# Altium footprint library con-vg.PCBLIB: 112 footprints (part 4 of 7)
Each footprint in its own frame and in the unit in brackets; x right, y up, seen from the top. Pads: shape width x height; smd on the part's side, far side on the other; paste and mask are expansions set on the pad; w line width, h text height; cw(c..) or ccw(c..) is an arc to the next point about the centre after c.
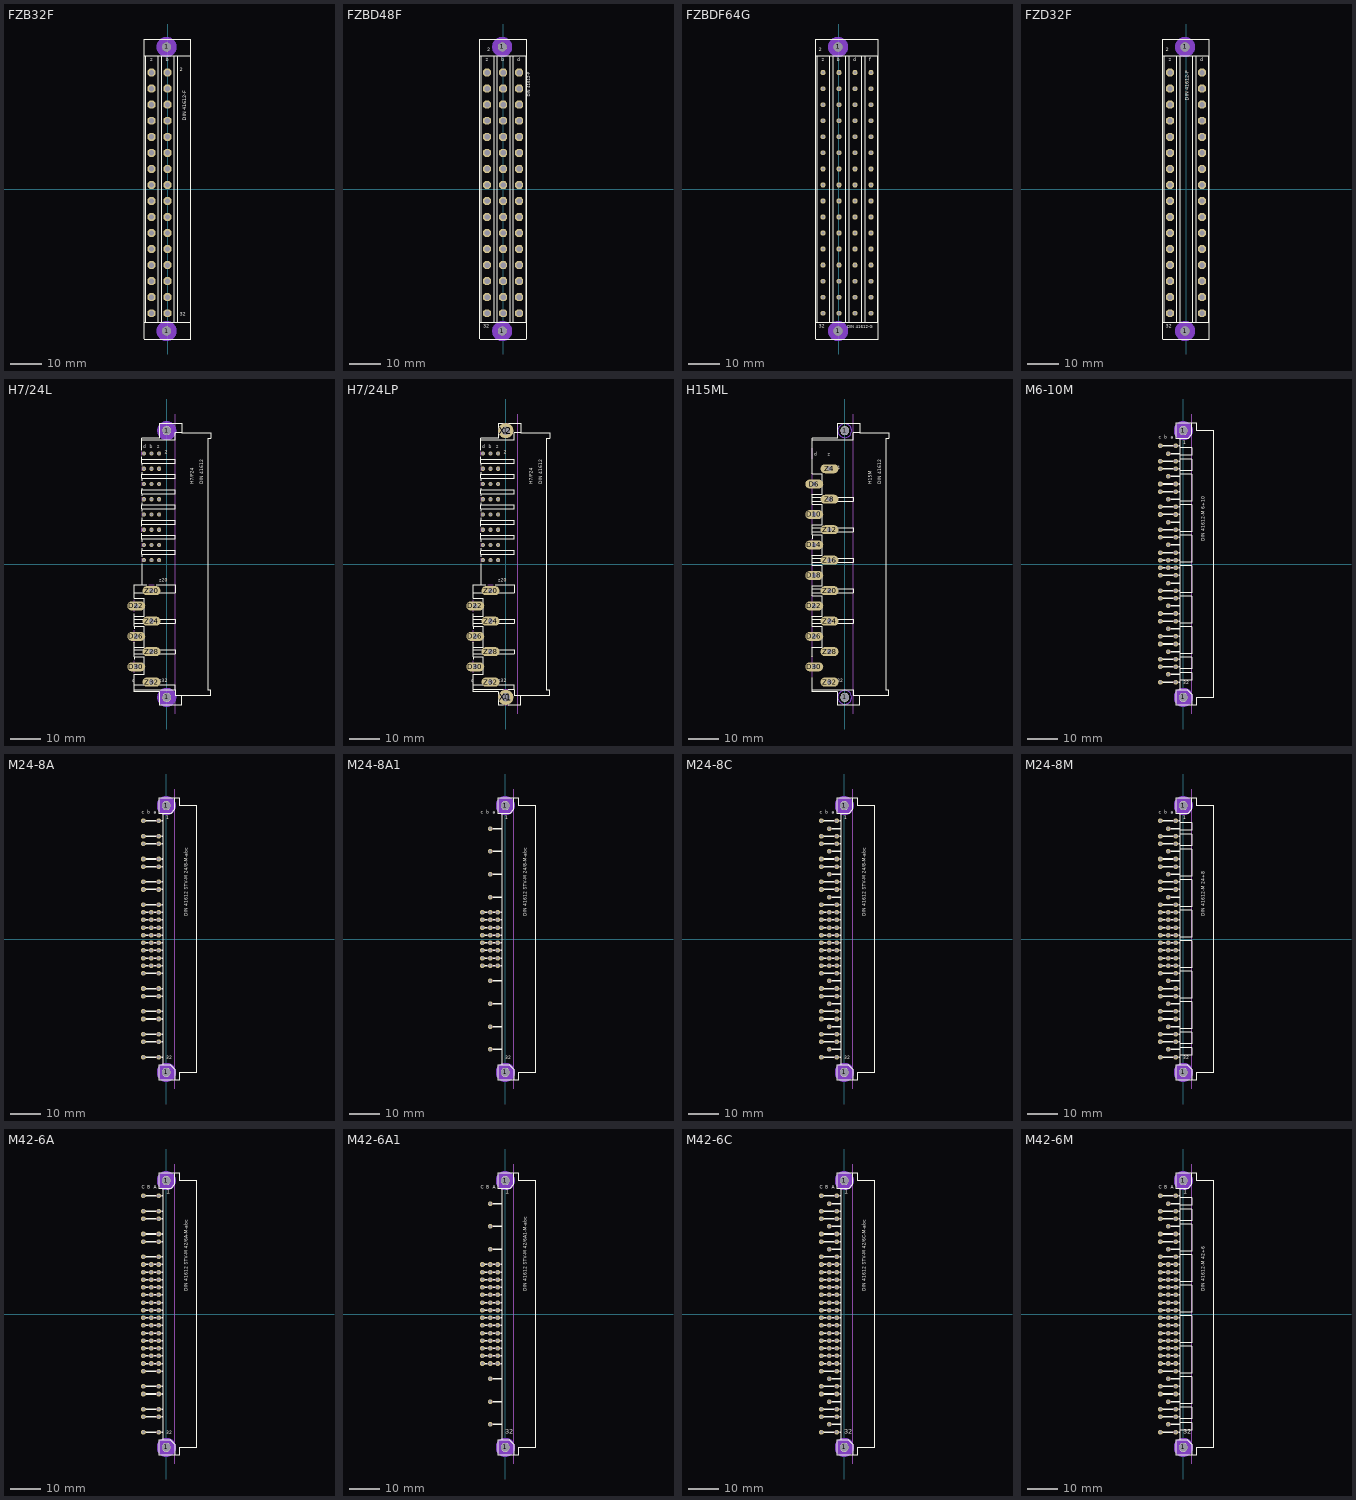
[diagram p3: the footprints below, top view; thin cyan lines are the x and y axes]

## FZB32F [mil]
pads (34):
  round 110 hole 110: 1(-12,-1771) 1(-12,1771)
  oct 99x99 hole 66: B2(0,1451) B4(0,1251) B6(0,1051) B8(0,851) B10(0,651) B12(0,451) B14(0,251) B16(0,51) B18(0,-149) B20(0,-349) B22(0,-549) B24(0,-749) B26(0,-949) B28(0,-1149) B30(0,-1349) B32(0,-1549) Z2(-200,1451) Z4(-200,1251) Z6(-200,1051) Z8(-200,851) Z10(-200,651) Z12(-200,451) Z14(-200,251) Z16(-200,51) Z18(-200,-149) Z20(-200,-349) Z22(-200,-549) Z24(-200,-749) Z26(-200,-949) Z28(-200,-1149) Z30(-200,-1349) Z32(-200,-1549)
Bottom Layer keep-out:
  circle w70: c-12,1771 r90
  circle w70: c-12,-1771 r90
Top Overlay:
  lines w10: -291.34,-1864.02 -291.34,1870 ; -287.4,-1870.08 290,-1870.08 ; -287.4,-1663.39 290,-1663.39 ; -287.4,1663.39 290,1663.39 ; -287.4,1870.08 290,1870.08 ; -280,-1660 -280,1660 ; -120,-1660 -120,1660 ; -80,-1660 -80,1660 ; 80,-1660 80,1660 ; 120,-1660 120,1660 ; 280,-1660 280,1660 ; 291.34,-1864.02 291.34,1870
  text "DIN 41612-F" at 250,850 h77.5
  text "32" at 150,-1600 h77.5
  text "2" at 150,1450 h77.5
  text "b" at -25,1575 h77.5
  text "z" at -215,1575 h77.5
Via Holes:
  circle w70: c-12,1771 r90
  circle w70: c-12,-1771 r90

## FZBD48F [mil]
pads (50):
  round 110 hole 110: 1(-12,-1771) 1(-12,1771)
  oct 99x99 hole 66: B2(0,1451) B4(0,1251) B6(0,1051) B8(0,851) B10(0,651) B12(0,451) B14(0,251) B16(0,51) B18(0,-149) B20(0,-349) B22(0,-549) B24(0,-749) B26(0,-949) B28(0,-1149) B30(0,-1349) B32(0,-1549) D2(200,1451) D4(200,1251) D6(200,1051) D8(200,851) D10(200,651) D12(200,451) D14(200,251) D16(200,51) D18(200,-149) D20(200,-349) D22(200,-549) D24(200,-749) D26(200,-949) D28(200,-1149) D30(200,-1349) D32(200,-1549) Z2(-200,1451) Z4(-200,1251) Z6(-200,1051) Z8(-200,851) Z10(-200,651) Z12(-200,451) Z14(-200,251) Z16(-200,51) Z18(-200,-149) Z20(-200,-349) Z22(-200,-549) Z24(-200,-749) Z26(-200,-949) Z28(-200,-1149) Z30(-200,-1349) Z32(-200,-1549)
Bottom Layer keep-out:
  circle w70: c-12,1771 r90
  circle w70: c-12,-1771 r90
Top Overlay:
  lines w10: -291.34,-1864.02 -291.34,1870 ; -287.4,-1870.08 290,-1870.08 ; -287.4,-1663.39 290,-1663.39 ; -287.4,1663.39 290,1663.39 ; -287.4,1870.08 290,1870.08 ; -280,-1660 -280,1660 ; -120,-1660 -120,1660 ; -80,-1660 -80,1660 ; 80,-1660 80,1660 ; 120,-1660 120,1660 ; 280,-1660 280,1660 ; 291.34,-1864.02 291.34,1870
  text "DIN 41612-F" at 350,1150 h62
  text "32" at -250,-1750 h77.5
  text "2" at -200,1700 h77.5
  text "d" at 175,1575 h77.5
  text "b" at -25,1575 h77.5
  text "z" at -215,1575 h77.5
Via Holes:
  circle w70: c-12,1771 r90
  circle w70: c-12,-1771 r90

## FZBDF64G [mil]
pads (66):
  round 110 hole 110: 1(-12,-1771) 1(-12,1771)
  oct 60x60 hole 40: B2(0,1451) B4(0,1251) B6(0,1051) B8(0,851) B10(0,651) B12(0,451) B14(0,251) B16(0,51) B18(0,-149) B20(0,-349) B22(0,-549) B24(0,-749) B26(0,-949) B28(0,-1149) B30(0,-1349) B32(0,-1549) D2(200,1451) D4(200,1251) D6(200,1051) D8(200,851) D10(200,651) D12(200,451) D14(200,251) D16(200,51) D18(200,-149) D20(200,-349) D22(200,-549) D24(200,-749) D26(200,-949) D28(200,-1149) D30(200,-1349) D32(200,-1549) F2(400,1451) F4(400,1251) F6(400,1051) F8(400,851) F10(400,651) F12(400,451) F14(400,251) F16(400,51) F18(400,-149) F20(400,-349) F22(400,-549) F24(400,-749) F26(400,-949) F28(400,-1149) F30(400,-1349) F32(400,-1549) Z2(-200,1451) Z4(-200,1251) Z6(-200,1051) Z8(-200,851) Z10(-200,651) Z12(-200,451) Z14(-200,251) Z16(-200,51) Z18(-200,-149) Z20(-200,-349) Z22(-200,-549) Z24(-200,-749) Z26(-200,-949) Z28(-200,-1149) Z30(-200,-1349) Z32(-200,-1549)
Bottom Layer keep-out:
  circle w70: c-12,1771 r90
  circle w70: c-12,-1771 r90
Top Overlay:
  lines w10: -291.34,-1864.02 -291.34,1870 ; -287.4,-1870.08 490,-1870.08 ; -287.4,-1663.39 490,-1663.39 ; -287.4,1663.39 490,1663.39 ; -287.4,1870.08 490,1870.08 ; -280,-1660 -280,1660 ; -120,-1660 -120,1660 ; -80,-1660 -80,1660 ; 80,-1660 80,1660 ; 120,-1660 120,1660 ; 280,-1660 280,1660 ; 320,-1660 320,1660 ; 480,-1660 480,1660 ; 491.34,-1864.02 491.34,1870
  text "32" at -250,-1750 h77.5
  text "2" at -250,1700 h77.5
  text "d" at 175,1575 h77.5
  text "b" at -25,1575 h77.5
  text "z" at -215,1575 h77.5
  text "f" at 375,1575 h77.5
  text "DIN 41612-G" at 100,-1750 h62
Via Holes:
  circle w70: c-12,1771 r90
  circle w70: c-12,-1771 r90

## FZD32F [mil]
pads (34):
  round 110 hole 110: 1(-12,-1771) 1(-12,1771)
  oct 99x99 hole 66: D2(200,1451) D4(200,1251) D6(200,1051) D8(200,851) D10(200,651) D12(200,451) D14(200,251) D16(200,51) D18(200,-149) D20(200,-349) D22(200,-549) D24(200,-749) D26(200,-949) D28(200,-1149) D30(200,-1349) D32(200,-1549) Z2(-200,1451) Z4(-200,1251) Z6(-200,1051) Z8(-200,851) Z10(-200,651) Z12(-200,451) Z14(-200,251) Z16(-200,51) Z18(-200,-149) Z20(-200,-349) Z22(-200,-549) Z24(-200,-749) Z26(-200,-949) Z28(-200,-1149) Z30(-200,-1349) Z32(-200,-1549)
Bottom Layer keep-out:
  circle w70: c-12,1771 r90
  circle w70: c-12,-1771 r90
Top Overlay:
  lines w10: -291.34,-1864.02 -291.34,1870 ; -287.4,-1870.08 290,-1870.08 ; -287.4,-1663.39 290,-1663.39 ; -287.4,1663.39 290,1663.39 ; -287.4,1870.08 290,1870.08 ; -280,-1660 -280,1660 ; -120,-1660 -120,1660 ; -80,-1660 -80,1660 ; 80,-1660 80,1660 ; 120,-1660 120,1660 ; 280,-1660 280,1660 ; 291.34,-1864.02 291.34,1870
  text "DIN 41612-F" at 50,1100 h77.5
  text "32" at -250,-1750 h77.5
  text "2" at -250,1700 h77.5
  text "d" at 175,1575 h77.5
  text "z" at -215,1575 h77.5
Via Holes:
  circle w70: c-12,1771 r90
  circle w70: c-12,-1771 r90

## H7/24L [mil]
pads (33):
  round 110 hole 110: 1(0,-1750) 1(0,1750)
  oct 54x54 hole 36: B2(-200,1450) B4(-200,1250) B6(-200,1050) B8(-200,850) B10(-200,650) B12(-200,450) B14(-200,250) B16(-200,50) D2(-300,1450) D4(-300,1250) D6(-300,1050) D8(-300,850) D10(-300,650) D12(-300,450) D14(-300,250) D16(-300,50) Z2(-100,1450) Z4(-100,1250) Z6(-100,1050) Z8(-100,850) Z10(-100,650) Z12(-100,450) Z14(-100,250) Z16(-100,50)
  oval 236.22x118.11 hole 63: D22(-400,-550) D26(-400,-950) D30(-400,-1350) Z20(-200,-350) Z24(-200,-750) Z28(-200,-1150) Z32(-200,-1550)
Bottom Layer keep-out:
  circle w70: c0,-1750 r90
  circle w70: c0,1750 r90
Top Overlay:
  circle w10: c0,-1750 r50
  circle w10: c0,1750 r50
  lines w10: -425,-1250 -425,-1215 ; -425,-1030 -425,-1090 ; -425,-850 -425,-815 ; -425,-650 -425,-685 ; -325,5 -325,-275 ; -325,95 -325,125 ; -325,205 -325,175 ; -325,295 -325,325 ; -325,405 -325,375 ; -325,495 -325,525 ; -325,605 -325,575 ; -325,695 -325,725 ; -325,805 -325,775 ; -325,895 -325,925 ; -325,995 -325,975 ; -325,1095 -325,1125 ; -325,1205 -325,1175 ; -325,1295 -325,1325 ; -325,1405 -325,1375 ; -325,1495 -325,1650 -100,1650 -100,1850 200,1850 200,1725 ; -325,1625 111,1625 111,1725 200,1725 ; -300,-1175 -425,-1175 ; -300,-1125 -425,-1125 ; -300,-775 -425,-775 ; -300,-725 -425,-725 ; -300,-375 -425,-375 ; -295,-1585 -425,-1585 ; -265,-275 -325,-275 ; -135,-275 110,-275 110,-375 -100,-375 ; -100,-1175 110,-1175 110,-1125 -100,-1125 ; -100,-775 110,-775 110,-725 -100,-725 ; -95,-1585 110,-1585 110,-1650 ; -425,-1650 -425,-1675 -100,-1675 -100,-1850 200,-1850 200,-1725 ; -425,-1650 110,-1650 ; -425,-1650 -425,-1585 ; -425,-1585 -425,-1450 -295,-1450 -295,-1215 -425,-1215 ; -425,-1215 -425,-1175 ; -425,-1175 -425,-1125 ; -425,-1125 -425,-1090 ; -425,-1090 -295,-1090 -295,-815 -425,-815 ; -425,-815 -425,-775 ; -425,-775 -425,-725 ; -425,-725 -425,-685 ; -425,-685 -295,-685 -295,-450 -425,-450 -425,-375 ; -425,-375 -425,-275 -325,-275 ; -325,125 110,125 110,175 -325,175 ; -325,125 -325,175 ; -325,325 110,325 110,375 -325,375 ; -325,325 -325,375 ; -325,525 110,525 110,575 -325,575 ; -325,525 -325,575 ; -325,725 110,725 110,775 -325,775 ; -325,725 -325,775 ; -325,925 110,925 110,975 -325,975 ; -325,925 -325,975 ; -325,1125 110,1125 110,1175 -325,1175 ; -325,1125 -325,1175 ; -325,1325 110,1325 110,1375 -325,1375 ; -325,1325 -325,1375 ; 110,-1650 110,-1725 200,-1725 ; 200,-1725 575,-1725 575,-1650 540,-1650 540,1650 575,1650 575,1725 200,1725
  text "2" at -25,1425 h77.5
  text "d" at -310,1500 h77.5
  text "b" at -225,1500 h77.5
  text "z" at -125,1500 h77.5
  text "H7/F24" at 375,1050 h77.5
  text "DIN 41612" at 500,1050 h77.5
  text "z20" at -100,-250 h77.5
  text "z32" at -100,-1570 h77.5
  text "d" at -450,-1570 h77.5
Mechanical 1:
  lines w0: 110,-1969 110,1969
Mechanical 16:
  lines w10: -425,-1430 -425,-1270 ; -425,-1030 -425,-870 ; -425,-630 -425,-470 ; -325,25 -325,75 ; -325,225 -325,275 ; -325,425 -325,475 ; -325,625 -325,675 ; -325,825 -325,875 ; -325,1025 -325,1075 ; -325,1225 -325,1275 ; -325,1425 -325,1475 ; -280,-1175 -120,-1175 ; -280,-1125 -120,-1125 ; -280,-775 -120,-775 ; -280,-725 -120,-725 ; -280,-375 -120,-375 ; -275,-1585 -125,-1585 ; -235,-275 -165,-275
Via Holes:
  circle w70: c0,-1750 r90
  circle w70: c0,1750 r90

## H7/24LP [mil]
pads (35):
  round 110 hole 110: 1(0,-1750) 1(0,1750)
  oct 54x54 hole 36: B2(-200,1450) B4(-200,1250) B6(-200,1050) B8(-200,850) B10(-200,650) B12(-200,450) B14(-200,250) B16(-200,50) D2(-300,1450) D4(-300,1250) D6(-300,1050) D8(-300,850) D10(-300,650) D12(-300,450) D14(-300,250) D16(-300,50) Z2(-100,1450) Z4(-100,1250) Z6(-100,1050) Z8(-100,850) Z10(-100,650) Z12(-100,450) Z14(-100,250) Z16(-100,50)
  oval 236.22x118.11 hole 63: D22(-400,-550) D26(-400,-950) D30(-400,-1350) Z20(-200,-350) Z24(-200,-750) Z28(-200,-1150) Z32(-200,-1550)
  round 200 hole 110: X1(0,-1750) X2(0,1750)
Top Overlay:
  circle w10: c0,-1750 r50
  circle w10: c0,1750 r50
  lines w10: -425,-1250 -425,-1215 ; -425,-1030 -425,-1090 ; -425,-850 -425,-815 ; -425,-650 -425,-685 ; -325,5 -325,-275 ; -325,95 -325,125 ; -325,205 -325,175 ; -325,295 -325,325 ; -325,405 -325,375 ; -325,495 -325,525 ; -325,605 -325,575 ; -325,695 -325,725 ; -325,805 -325,775 ; -325,895 -325,925 ; -325,995 -325,975 ; -325,1095 -325,1125 ; -325,1205 -325,1175 ; -325,1295 -325,1325 ; -325,1405 -325,1375 ; -325,1495 -325,1650 -100,1650 -100,1720 ; -325,1625 110,1625 110,1725 200,1725 ; -300,-1175 -425,-1175 ; -300,-1125 -425,-1125 ; -300,-775 -425,-775 ; -300,-725 -425,-725 ; -300,-375 -425,-375 ; -295,-1585 -425,-1585 ; -265,-275 -325,-275 ; -135,-275 110,-275 110,-375 -100,-375 ; -100,-1775 -100,-1850 -35,-1850 ; -100,-1720 -100,-1675 -425,-1675 -425,-1650 ; -100,-1175 110,-1175 110,-1125 -100,-1125 ; -100,-775 110,-775 110,-725 -100,-725 ; -100,1780 -100,1850 -35,1850 ; -95,-1585 110,-1585 110,-1650 ; -30,-1650 -425,-1650 ; 30,1850 200,1850 200,1725 ; 35,-1850 200,-1850 200,-1725 ; 35,-1650 110,-1650 ; -425,-1650 -425,-1585 ; -425,-1585 -425,-1450 -295,-1450 -295,-1215 -425,-1215 ; -425,-1215 -425,-1175 ; -425,-1175 -425,-1125 ; -425,-1125 -425,-1090 ; -425,-1090 -295,-1090 -295,-815 -425,-815 ; -425,-815 -425,-775 ; -425,-775 -425,-725 ; -425,-725 -425,-685 ; -425,-685 -295,-685 -295,-450 -425,-450 -425,-375 ; -425,-375 -425,-275 -325,-275 ; -325,125 110,125 110,175 -325,175 ; -325,125 -325,175 ; -325,325 110,325 110,375 -325,375 ; -325,325 -325,375 ; -325,525 110,525 110,575 -325,575 ; -325,525 -325,575 ; -325,725 110,725 110,775 -325,775 ; -325,725 -325,775 ; -325,925 110,925 110,975 -325,975 ; -325,925 -325,975 ; -325,1125 110,1125 110,1175 -325,1175 ; -325,1125 -325,1175 ; -325,1325 110,1325 110,1375 -325,1375 ; -325,1325 -325,1375 ; 110,-1650 110,-1725 200,-1725 ; 200,-1725 575,-1725 575,-1650 535,-1650 535,1650 575,1650 575,1725 200,1725
  text "H7/F24" at 375,1050 h77.5
  text "DIN 41612" at 500,1050 h77.5
  text "2" at -25,1425 h77.5
  text "d" at -310,1500 h77.5
  text "b" at -225,1500 h77.5
  text "z" at -125,1500 h77.5
  text "z20" at -100,-250 h77.5
  text "z32" at -100,-1570 h77.5
  text "d" at -450,-1570 h77.5
Mechanical 1:
  lines w0: 160,-1969 160,1969
Mechanical 16:
  lines w10: -425,-1430 -425,-1270 ; -425,-1030 -425,-870 ; -425,-630 -425,-470 ; -325,25 -325,75 ; -325,225 -325,275 ; -325,425 -325,475 ; -325,625 -325,675 ; -325,825 -325,875 ; -325,1025 -325,1075 ; -325,1225 -325,1275 ; -325,1425 -325,1475 ; -280,-1175 -120,-1175 ; -280,-1125 -120,-1125 ; -280,-775 -120,-775 ; -280,-725 -120,-725 ; -280,-375 -120,-375 ; -275,-1585 -125,-1585 ; -235,-275 -165,-275 ; -100,-1775 -100,-1720 ; -100,1720 -100,1780 ; -35,-1850 35,-1850 ; -35,1850 30,1850 ; -30,-1650 35,-1650

## H15ML [mm]
pads (17):
  round 2.794 hole 2.794: 1(0,-44.45) 1(0,44.45)
  oval 6x3 hole 1.6: D6(-10.16,26.67) D10(-10.16,16.51) D14(-10.16,6.35) D18(-10.16,-3.81) D22(-10.16,-13.97) D26(-10.16,-24.13) D30(-10.16,-34.29) Z4(-5.08,31.75) Z8(-5.08,21.59) Z12(-5.08,11.43) Z16(-5.08,1.27) Z20(-5.08,-8.89) Z24(-5.08,-19.05) Z28(-5.08,-29.21) Z32(-5.08,-39.37)
Bottom Layer keep-out:
  circle w0.254: c0,-44.45 r2.286
  circle w0.254: c0,44.45 r2.286
Top Overlay:
  circle w0.254: c0,-44.45 r1.27
  circle w0.254: c0,44.45 r1.27
  lines w0.254: -10.795,-37.846 -10.795,-41.91 ; -10.795,-30.861 -10.795,-27.686 -7.493,-27.686 -7.493,-20.701 -10.795,-20.701 -10.795,-19.685 ; -10.795,8.382 -10.795,9.779 ; -7.62,-19.685 -10.795,-19.685 ; -7.62,-18.415 -10.795,-18.415 ; -7.62,-9.525 -10.795,-9.525 ; -7.62,-8.255 -10.795,-8.255 ; -7.62,0.635 -10.795,0.635 ; -7.62,1.905 -10.795,1.905 ; -7.62,10.795 -10.795,10.795 ; -7.62,12.065 -10.795,12.065 ; -7.62,20.955 -10.795,20.955 ; -7.62,22.225 -10.795,22.225 ; -2.54,-19.685 2.794,-19.685 2.794,-18.415 -2.54,-18.415 ; -2.54,-9.525 2.794,-9.525 2.794,-8.255 -2.54,-8.255 ; -2.54,0.635 2.794,0.635 2.794,1.905 -2.54,1.905 ; -2.54,10.795 2.794,10.795 2.794,12.065 -2.54,12.065 ; -2.54,20.955 2.794,20.955 2.794,22.225 -2.54,22.225 ; -10.795,-41.91 -10.795,-42.545 -2.54,-42.545 -2.54,-46.99 5.08,-46.99 5.08,-43.815 ; -10.795,-41.91 2.794,-41.91 2.794,-43.815 5.08,-43.815 ; -10.795,-19.685 -10.795,-18.415 ; -10.795,-18.415 -10.795,-17.399 -7.493,-17.399 -7.493,-10.541 -10.795,-10.541 -10.795,-9.525 ; -10.795,-9.525 -10.795,-8.255 ; -10.795,-8.255 -10.795,-7.239 -7.493,-7.239 -7.493,-0.381 -10.795,-0.381 -10.795,0.635 ; -10.795,0.635 -10.795,1.905 ; -10.795,1.905 -10.795,2.921 -7.493,2.921 -7.493,9.779 -10.795,9.779 ; -10.795,9.779 -10.795,10.795 ; -10.795,10.795 -10.795,12.065 ; -10.795,12.065 -10.795,13.081 -7.493,13.081 -7.493,19.939 -10.795,19.939 -10.795,20.955 ; -10.795,20.955 -10.795,22.225 ; -10.795,22.225 -10.795,23.241 -7.493,23.241 -7.493,30.099 -10.795,30.099 -10.795,41.275 ; -10.795,41.275 2.819,41.275 2.819,43.815 5.08,43.815 ; -10.795,41.275 -10.795,41.91 -2.54,41.91 -2.54,46.99 5.08,46.99 5.08,43.815 ; 5.08,-43.815 14.605,-43.815 14.605,-41.91 13.716,-41.91 13.716,41.91 14.605,41.91 14.605,43.815 5.08,43.815
  text "32" at -2.54,-40.005 h1.97
  text "DIN 41612" at 12.7,26.67 h1.97
  text "4" at -2.54,31.115 h1.97
  text "H15M" at 9.525,26.67 h1.97
  text "z" at -5.715,35.56 h1.97
  text "d" at -10.16,35.56 h1.97
Mechanical 1:
  lines w0: 2.794,-50.013 2.794,50.013
Mechanical 16:
  lines w0.254: -10.795,-37.846 -10.795,-30.861 ; -10.795,-27.686 -10.795,-20.701 ; -10.795,-17.399 -10.795,-10.541 ; -10.795,-7.239 -10.795,-0.381 ; -10.795,2.921 -10.795,8.382 ; -10.795,13.081 -10.795,19.939 ; -10.795,23.241 -10.795,30.099 ; -10.795,35.052 -10.795,38.608 ; -7.62,-19.685 -2.54,-19.685 ; -7.62,-18.415 -2.54,-18.415 ; -7.62,-9.525 -2.54,-9.525 ; -7.62,-8.255 -2.54,-8.255 ; -7.62,0.635 -2.54,0.635 ; -7.62,1.905 -2.54,1.905 ; -7.62,10.795 -2.54,10.795 ; -7.62,12.065 -2.54,12.065 ; -7.62,20.955 -2.54,20.955 ; -7.62,22.225 -2.54,22.225
Via Holes:
  circle w0.254: c0,-44.45 r2.286
  circle w0.254: c0,44.45 r2.286

## M6-10M [mil]
pads (58):
  round 110.24 hole 110.24: 1(0,-1750) 1(0,1750)
  oct 60x60 hole 40: A1(-100,1550) A3(-100,1350) A4(-100,1250) A6(-100,1050) A7(-100,950) A9(-100,750) A10(-100,650) A12(-100,450) A13(-100,350) A15(-100,150) A16(-100,50) A17(-100,-50) A18(-100,-150) A20(-100,-350) A21(-100,-450) A23(-100,-650) A24(-100,-750) A26(-100,-950) A27(-100,-1050) A29(-100,-1250) A30(-100,-1350) A32(-100,-1550) B2(-200,1450) B5(-200,1150) B8(-200,850) B11(-200,550) B14(-200,250) B16(-200,50) B17(-200,-50) B19(-200,-250) B22(-200,-550) B25(-200,-850) B28(-200,-1150) B31(-200,-1450) C1(-300,1550) C3(-300,1350) C4(-300,1250) C6(-300,1050) C7(-300,950) C9(-300,750) C10(-300,650) C12(-300,450) C13(-300,350) C15(-300,150) C16(-300,50) C17(-300,-50) C18(-300,-150) C20(-300,-350) C21(-300,-450) C23(-300,-650) C24(-300,-750) C26(-300,-950) C27(-300,-1050) C29(-300,-1250) C30(-300,-1350) C32(-300,-1550)
Bottom Layer keep-out:
  circle w70: c0,1750 r90
  circle w70: c0,-1750 r90
Top Overlay:
  drawing of 188 lines, arcs and shapes, not listed
  text "1" at 0,1550 h77.5
  text "32" at 0,-1600 h77.5
  text "DIN 41612-M 6+10" at 300,300 h77.5
  text "c" at -325,1625 h77.5
  text "b" at -250,1625 h77.5
  text "a" at -165,1625 h77.5
Mechanical 1:
  lines w0: 110,-1969 110,1969
Mechanical 16:
  rectangle: -135,1540 -65,1560
  rectangle: -310,1540 -265,1560
  rectangle: -310,1340 -265,1360
  rectangle: -135,1340 -65,1360
  rectangle: -135,1240 -65,1260
  rectangle: -310,1240 -265,1260
  rectangle: -135,1040 -65,1060
  rectangle: -310,1040 -265,1060
  rectangle: -310,940 -265,960
  rectangle: -135,940 -65,960
  rectangle: -135,740 -65,760
  rectangle: -310,740 -265,760
  rectangle: -135,640 -65,660
  rectangle: -310,640 -265,660
  rectangle: -135,440 -65,460
  rectangle: -135,340 -65,360
  rectangle: -310,440 -265,460
  rectangle: -310,340 -265,360
  rectangle: -135,140 -65,160
  rectangle: -310,140 -265,160
  rectangle: -310,40 -265,60
  rectangle: -135,40 -65,60
  rectangle: -135,-60 -65,-40
  rectangle: -310,-60 -265,-40
  rectangle: -135,-160 -65,-140
  rectangle: -310,-160 -265,-140
  rectangle: -310,-360 -265,-340
  rectangle: -135,-360 -65,-340
  rectangle: -135,-460 -65,-440
  rectangle: -310,-460 -265,-440
  rectangle: -135,-660 -65,-640
  rectangle: -310,-660 -265,-640
  rectangle: -135,-760 -65,-740
  rectangle: -310,-760 -265,-740
  rectangle: -135,-960 -65,-940
  rectangle: -310,-960 -265,-940
  rectangle: -135,-1060 -65,-1040
  rectangle: -310,-1060 -265,-1040
  rectangle: -310,-1260 -265,-1240
  rectangle: -135,-1260 -65,-1240
  rectangle: -135,-1360 -65,-1340
  rectangle: -310,-1360 -265,-1340
  rectangle: -135,-1560 -65,-1540
  rectangle: -310,-1560 -265,-1540
  rectangle: -235,40 -165,60
  rectangle: -235,-60 -165,-40
  rectangle: -210,1140 -165,1160
  rectangle: -210,1440 -165,1460
  rectangle: -210,-1160 -165,-1140
  rectangle: -210,-1460 -165,-1440
  rectangle: -210,840 -165,860
  rectangle: -210,-860 -165,-840
  rectangle: -210,540 -165,560
  rectangle: -210,-560 -165,-540
  rectangle: -210,240 -165,260
  rectangle: -210,-260 -165,-240
Via Holes:
  circle w70: c0,1750 r90
  circle w70: c0,-1750 r90

## M24-8A [mil]
pads (58):
  round 110.24 hole 110.24: 1(0,-1750) 1(0,1750)
  oct 60x60 hole 40: A1(-100,1550) A3(-100,1350) A4(-100,1250) A6(-100,1050) A7(-100,950) A9(-100,750) A10(-100,650) A12(-100,450) A13(-100,350) A14(-100,250) A15(-100,150) A16(-100,50) A17(-100,-50) A18(-100,-150) A19(-100,-250) A20(-100,-350) A21(-100,-450) A23(-100,-650) A24(-100,-750) A26(-100,-950) A27(-100,-1050) A29(-100,-1250) A30(-100,-1350) A32(-100,-1550) B13(-200,350) B14(-200,250) B15(-200,150) B16(-200,50) B17(-200,-50) B18(-200,-150) B19(-200,-250) B20(-200,-350) C1(-300,1550) C3(-300,1350) C4(-300,1250) C6(-300,1050) C7(-300,950) C9(-300,750) C10(-300,650) C12(-300,450) C13(-300,350) C14(-300,250) C15(-300,150) C16(-300,50) C17(-300,-50) C18(-300,-150) C19(-300,-250) C20(-300,-350) C21(-300,-450) C23(-300,-650) C24(-300,-750) C26(-300,-950) C27(-300,-1050) C29(-300,-1250) C30(-300,-1350) C32(-300,-1550)
Bottom Layer keep-out:
  circle w70: c0,1750 r90
  circle w70: c0,-1750 r90
Top Overlay:
  circle w10: c0,1750 r50
  circle w10: c0,-1750 r50
  rectangle: -65,1540 -50,1560
  rectangle: -65,1340 -50,1360
  rectangle: -65,1240 -50,1260
  rectangle: -65,1040 -50,1060
  rectangle: -65,940 -50,960
  rectangle: -65,740 -50,760
  rectangle: -65,640 -50,660
  rectangle: -65,440 -50,460
  rectangle: -65,340 -50,360
  rectangle: -65,240 -50,260
  rectangle: -65,140 -50,160
  rectangle: -65,40 -50,60
  rectangle: -65,-60 -50,-40
  rectangle: -65,-160 -50,-140
  rectangle: -65,-260 -50,-240
  rectangle: -65,-360 -50,-340
  rectangle: -65,-460 -50,-440
  rectangle: -65,-660 -50,-640
  rectangle: -65,-760 -50,-740
  rectangle: -65,-960 -50,-940
  rectangle: -65,-1060 -50,-1040
  rectangle: -65,-1260 -50,-1240
  rectangle: -65,-1360 -50,-1340
  rectangle: -65,-1560 -50,-1540
  rectangle: -235,1540 -165,1560
  rectangle: -165,1540 -135,1560
  rectangle: -265,1540 -235,1560
  rectangle: -165,1340 -135,1360
  rectangle: -235,1340 -165,1360
  rectangle: -265,1340 -235,1360
  rectangle: -165,940 -135,960
  rectangle: -265,940 -235,960
  rectangle: -165,740 -135,760
  rectangle: -265,740 -235,760
  rectangle: -265,640 -235,660
  rectangle: -165,640 -135,660
  rectangle: -265,440 -235,460
  rectangle: -165,440 -135,460
  rectangle: -165,340 -135,360
  rectangle: -265,340 -235,360
  rectangle: -265,240 -235,260
  rectangle: -165,240 -135,260
  rectangle: -165,140 -135,160
  rectangle: -265,140 -235,160
  rectangle: -265,40 -235,60
  rectangle: -165,40 -135,60
  rectangle: -165,-60 -135,-40
  rectangle: -265,-60 -235,-40
  rectangle: -265,-160 -235,-140
  rectangle: -165,-160 -135,-140
  rectangle: -165,-260 -135,-240
  rectangle: -265,-260 -235,-240
  rectangle: -265,-360 -235,-340
  rectangle: -165,-360 -135,-340
  rectangle: -165,-460 -135,-440
  rectangle: -265,-460 -235,-440
  rectangle: -165,-660 -135,-640
  rectangle: -265,-660 -235,-640
  rectangle: -265,-760 -235,-740
  rectangle: -165,-760 -135,-740
  rectangle: -265,-960 -235,-940
  rectangle: -165,-960 -135,-940
  rectangle: -165,-1060 -135,-1040
  rectangle: -265,-1060 -235,-1040
  rectangle: -165,-1260 -135,-1240
  rectangle: -265,-1260 -235,-1240
  rectangle: -265,-1360 -235,-1340
  rectangle: -235,-1360 -165,-1340
  rectangle: -165,-1360 -135,-1340
  rectangle: -265,-1560 -235,-1540
  rectangle: -235,-1560 -165,-1540
  rectangle: -165,-1560 -135,-1540
  rectangle: -235,1240 -165,1260
  rectangle: -265,1240 -235,1260
  rectangle: -165,1240 -135,1260
  rectangle: -265,1040 -235,1060
  rectangle: -235,1040 -165,1060
  rectangle: -165,1040 -135,1060
  rectangle: -235,-1260 -165,-1240
  rectangle: -235,-1060 -165,-1040
  rectangle: -235,940 -165,960
  rectangle: -235,740 -165,760
  rectangle: -235,-960 -165,-940
  rectangle: -235,-760 -165,-740
  rectangle: -235,640 -165,660
  rectangle: -235,440 -165,460
  rectangle: -235,-660 -165,-640
  rectangle: -235,-460 -165,-440
  lines w10: -50,-1650 -100,-1650 -100,-1850 113,-1850 ; -50,-1650 50,-1650 113,-1713 113,-1850 ; -50,-1650 -50,1650 ; -50,1650 -100,1650 -100,1850 113,1850 ; -50,1650 63,1650 113,1700 113,1850 ; 113,-1850 175,-1850 175,-1750 400,-1750 400,1750 175,1750 175,1850 113,1850
  text "1" at 0,1550 h77.5
  text "32" at 0,-1600 h77.5
  text "c" at -325,1625 h77.5
  text "b" at -250,1625 h77.5
  text "a" at -165,1625 h77.5
  text "DIN 41612 STV-M 24/8-M-abc" at 300,300 h77.5
Mechanical 1:
  lines w0: 110,-1969 110,1969
Mechanical 16:
  rectangle: -135,1540 -65,1560
  rectangle: -310,1540 -265,1560
  rectangle: -310,1340 -265,1360
  rectangle: -135,1340 -65,1360
  rectangle: -135,1240 -65,1260
  rectangle: -310,1240 -265,1260
  rectangle: -135,1040 -65,1060
  rectangle: -310,1040 -265,1060
  rectangle: -310,940 -265,960
  rectangle: -135,940 -65,960
  rectangle: -135,740 -65,760
  rectangle: -310,740 -265,760
  rectangle: -135,640 -65,660
  rectangle: -310,640 -265,660
  rectangle: -135,440 -65,460
  rectangle: -135,340 -65,360
  rectangle: -310,440 -265,460
  rectangle: -310,340 -265,360
  rectangle: -310,240 -265,260
  rectangle: -135,240 -65,260
  rectangle: -135,140 -65,160
  rectangle: -310,140 -265,160
  rectangle: -310,40 -265,60
  rectangle: -135,40 -65,60
  rectangle: -135,-60 -65,-40
  rectangle: -310,-60 -265,-40
  rectangle: -135,-160 -65,-140
  rectangle: -310,-160 -265,-140
  rectangle: -135,-260 -65,-240
  rectangle: -310,-260 -265,-240
  rectangle: -310,-360 -265,-340
  rectangle: -135,-360 -65,-340
  rectangle: -135,-460 -65,-440
  rectangle: -310,-460 -265,-440
  rectangle: -135,-660 -65,-640
  rectangle: -310,-660 -265,-640
  rectangle: -135,-760 -65,-740
  rectangle: -310,-760 -265,-740
  rectangle: -135,-960 -65,-940
  rectangle: -310,-960 -265,-940
  rectangle: -135,-1060 -65,-1040
  rectangle: -310,-1060 -265,-1040
  rectangle: -310,-1260 -265,-1240
  rectangle: -135,-1260 -65,-1240
  rectangle: -135,-1360 -65,-1340
  rectangle: -310,-1360 -265,-1340
  rectangle: -135,-1560 -65,-1540
  rectangle: -310,-1560 -265,-1540
  rectangle: -235,340 -165,360
  rectangle: -235,240 -165,260
  rectangle: -235,140 -165,160
  rectangle: -235,40 -165,60
  rectangle: -235,-60 -165,-40
  rectangle: -235,-160 -165,-140
  rectangle: -235,-260 -165,-240
  rectangle: -235,-360 -165,-340
Via Holes:
  circle w70: c0,1750 r90
  circle w70: c0,-1750 r90

## M24-8A1 [mil]
pads (34):
  round 110.24 hole 110.24: 1(0,-1750) 1(0,1750)
  oct 60x60 hole 40: A13(-100,350) A14(-100,250) A15(-100,150) A16(-100,50) A17(-100,-50) A18(-100,-150) A19(-100,-250) A20(-100,-350) B2(-200,1450) B5(-200,1150) B8(-200,850) B11(-200,550) B13(-200,350) B14(-200,250) B15(-200,150) B16(-200,50) B17(-200,-50) B18(-200,-150) B19(-200,-250) B20(-200,-350) B22(-200,-550) B25(-200,-850) B28(-200,-1150) B31(-200,-1450) C13(-300,350) C14(-300,250) C15(-300,150) C16(-300,50) C17(-300,-50) C18(-300,-150) C19(-300,-250) C20(-300,-350)
Bottom Layer keep-out:
  circle w70: c0,1750 r90
  circle w70: c0,-1750 r90
Top Overlay:
  circle w10: c0,1750 r50
  circle w10: c0,-1750 r50
  rectangle: -65,1440 -50,1460
  rectangle: -135,1440 -65,1460
  rectangle: -65,1140 -50,1160
  rectangle: -65,840 -50,860
  rectangle: -65,540 -50,560
  rectangle: -65,340 -50,360
  rectangle: -65,240 -50,260
  rectangle: -65,140 -50,160
  rectangle: -65,40 -50,60
  rectangle: -65,-60 -50,-40
  rectangle: -65,-160 -50,-140
  rectangle: -65,-260 -50,-240
  rectangle: -65,-360 -50,-340
  rectangle: -65,-560 -50,-540
  rectangle: -65,-860 -50,-840
  rectangle: -65,-1160 -50,-1140
  rectangle: -135,-1460 -65,-1440
  rectangle: -65,-1460 -50,-1440
  rectangle: -165,1440 -135,1460
  rectangle: -165,1140 -135,1160
  rectangle: -165,840 -135,860
  rectangle: -165,540 -135,560
  rectangle: -165,340 -135,360
  rectangle: -265,340 -235,360
  rectangle: -265,240 -235,260
  rectangle: -165,240 -135,260
  rectangle: -165,140 -135,160
  rectangle: -265,140 -235,160
  rectangle: -265,40 -235,60
  rectangle: -165,40 -135,60
  rectangle: -165,-60 -135,-40
  rectangle: -265,-60 -235,-40
  rectangle: -265,-160 -235,-140
  rectangle: -165,-160 -135,-140
  rectangle: -165,-260 -135,-240
  rectangle: -265,-260 -235,-240
  rectangle: -265,-360 -235,-340
  rectangle: -165,-360 -135,-340
  rectangle: -165,-560 -135,-540
  rectangle: -165,-860 -135,-840
  rectangle: -165,-1160 -135,-1140
  rectangle: -165,-1460 -135,-1440
  rectangle: -135,-1160 -65,-1140
  rectangle: -135,1140 -65,1160
  rectangle: -135,840 -65,860
  rectangle: -135,-860 -65,-840
  rectangle: -135,540 -65,560
  rectangle: -135,-560 -65,-540
  lines w10: -50,-1650 -100,-1650 -100,-1850 113,-1850 ; -50,-1650 50,-1650 113,-1713 113,-1850 ; -50,-1650 -50,1650 ; -50,1650 -100,1650 -100,1850 113,1850 ; -50,1650 63,1650 113,1700 113,1850 ; 113,-1850 175,-1850 175,-1750 400,-1750 400,1750 175,1750 175,1850 113,1850
  text "1" at 0,1550 h77.5
  text "32" at 0,-1600 h77.5
  text "c" at -325,1625 h77.5
  text "b" at -250,1625 h77.5
  text "a" at -165,1625 h77.5
  text "DIN 41612 STV-M 24/8-M-abc" at 300,300 h77.5
Mechanical 1:
  lines w0: 110,-1969 110,1969
Mechanical 16:
  rectangle: -135,340 -65,360
  rectangle: -310,340 -265,360
  rectangle: -310,240 -265,260
  rectangle: -135,240 -65,260
  rectangle: -135,140 -65,160
  rectangle: -310,140 -265,160
  rectangle: -310,40 -265,60
  rectangle: -135,40 -65,60
  rectangle: -135,-60 -65,-40
  rectangle: -310,-60 -265,-40
  rectangle: -135,-160 -65,-140
  rectangle: -310,-160 -265,-140
  rectangle: -135,-260 -65,-240
  rectangle: -310,-260 -265,-240
  rectangle: -310,-360 -265,-340
  rectangle: -135,-360 -65,-340
  rectangle: -235,340 -165,360
  rectangle: -235,240 -165,260
  rectangle: -235,140 -165,160
  rectangle: -235,40 -165,60
  rectangle: -235,-60 -165,-40
  rectangle: -235,-160 -165,-140
  rectangle: -235,-260 -165,-240
  rectangle: -235,-360 -165,-340
  rectangle: -210,1140 -165,1160
  rectangle: -210,1440 -165,1460
  rectangle: -210,-1160 -165,-1140
  rectangle: -210,-1460 -165,-1440
  rectangle: -210,840 -165,860
  rectangle: -210,-860 -165,-840
  rectangle: -210,540 -165,560
  rectangle: -210,-560 -165,-540
Via Holes:
  circle w70: c0,1750 r90
  circle w70: c0,-1750 r90

## M24-8C [mil]
pads (66):
  round 110.24 hole 110.24: 1(0,-1750) 1(0,1750)
  oct 60x60 hole 40: A1(-100,1550) A3(-100,1350) A4(-100,1250) A6(-100,1050) A7(-100,950) A9(-100,750) A10(-100,650) A12(-100,450) A13(-100,350) A14(-100,250) A15(-100,150) A16(-100,50) A17(-100,-50) A18(-100,-150) A19(-100,-250) A20(-100,-350) A21(-100,-450) A23(-100,-650) A24(-100,-750) A26(-100,-950) A27(-100,-1050) A29(-100,-1250) A30(-100,-1350) A32(-100,-1550) B2(-200,1450) B5(-200,1150) B8(-200,850) B11(-200,550) B13(-200,350) B14(-200,250) B15(-200,150) B16(-200,50) B17(-200,-50) B18(-200,-150) B19(-200,-250) B20(-200,-350) B22(-200,-550) B25(-200,-850) B28(-200,-1150) B31(-200,-1450) C1(-300,1550) C3(-300,1350) C4(-300,1250) C6(-300,1050) C7(-300,950) C9(-300,750) C10(-300,650) C12(-300,450) C13(-300,350) C14(-300,250) C15(-300,150) C16(-300,50) C17(-300,-50) C18(-300,-150) C19(-300,-250) C20(-300,-350) C21(-300,-450) C23(-300,-650) C24(-300,-750) C26(-300,-950) C27(-300,-1050) C29(-300,-1250) C30(-300,-1350) C32(-300,-1550)
Bottom Layer keep-out:
  circle w70: c0,1750 r90
  circle w70: c0,-1750 r90
Top Overlay:
  circle w10: c0,1750 r50
  circle w10: c0,-1750 r50
  rectangle: -65,1540 -50,1560
  rectangle: -65,1440 -50,1460
  rectangle: -135,1440 -65,1460
  rectangle: -65,1340 -50,1360
  rectangle: -65,1240 -50,1260
  rectangle: -65,1140 -50,1160
  rectangle: -65,1040 -50,1060
  rectangle: -65,940 -50,960
  rectangle: -65,840 -50,860
  rectangle: -65,740 -50,760
  rectangle: -65,640 -50,660
  rectangle: -65,540 -50,560
  rectangle: -65,440 -50,460
  rectangle: -65,340 -50,360
  rectangle: -65,240 -50,260
  rectangle: -65,140 -50,160
  rectangle: -65,40 -50,60
  rectangle: -65,-60 -50,-40
  rectangle: -65,-160 -50,-140
  rectangle: -65,-260 -50,-240
  rectangle: -65,-360 -50,-340
  rectangle: -65,-460 -50,-440
  rectangle: -65,-560 -50,-540
  rectangle: -65,-660 -50,-640
  rectangle: -65,-760 -50,-740
  rectangle: -65,-860 -50,-840
  rectangle: -65,-960 -50,-940
  rectangle: -65,-1060 -50,-1040
  rectangle: -65,-1160 -50,-1140
  rectangle: -65,-1260 -50,-1240
  rectangle: -65,-1360 -50,-1340
  rectangle: -135,-1460 -65,-1440
  rectangle: -65,-1460 -50,-1440
  rectangle: -65,-1560 -50,-1540
  rectangle: -235,1540 -165,1560
  rectangle: -165,1540 -135,1560
  rectangle: -265,1540 -235,1560
  rectangle: -165,1440 -135,1460
  rectangle: -165,1340 -135,1360
  rectangle: -235,1340 -165,1360
  rectangle: -265,1340 -235,1360
  rectangle: -165,1140 -135,1160
  rectangle: -165,940 -135,960
  rectangle: -265,940 -235,960
  rectangle: -165,840 -135,860
  rectangle: -165,740 -135,760
  rectangle: -265,740 -235,760
  rectangle: -265,640 -235,660
  rectangle: -165,640 -135,660
  rectangle: -165,540 -135,560
  rectangle: -265,440 -235,460
  rectangle: -165,440 -135,460
  rectangle: -165,340 -135,360
  rectangle: -265,340 -235,360
  rectangle: -265,240 -235,260
  rectangle: -165,240 -135,260
  rectangle: -165,140 -135,160
  rectangle: -265,140 -235,160
  rectangle: -265,40 -235,60
  rectangle: -165,40 -135,60
  rectangle: -165,-60 -135,-40
  rectangle: -265,-60 -235,-40
  rectangle: -265,-160 -235,-140
  rectangle: -165,-160 -135,-140
  rectangle: -165,-260 -135,-240
  rectangle: -265,-260 -235,-240
  rectangle: -265,-360 -235,-340
  rectangle: -165,-360 -135,-340
  rectangle: -165,-460 -135,-440
  rectangle: -265,-460 -235,-440
  rectangle: -165,-560 -135,-540
  rectangle: -165,-660 -135,-640
  rectangle: -265,-660 -235,-640
  rectangle: -265,-760 -235,-740
  rectangle: -165,-760 -135,-740
  rectangle: -165,-860 -135,-840
  rectangle: -265,-960 -235,-940
  rectangle: -165,-960 -135,-940
  rectangle: -165,-1060 -135,-1040
  rectangle: -265,-1060 -235,-1040
  rectangle: -165,-1160 -135,-1140
  rectangle: -165,-1260 -135,-1240
  rectangle: -265,-1260 -235,-1240
  rectangle: -265,-1360 -235,-1340
  rectangle: -235,-1360 -165,-1340
  rectangle: -165,-1360 -135,-1340
  rectangle: -165,-1460 -135,-1440
  rectangle: -265,-1560 -235,-1540
  rectangle: -235,-1560 -165,-1540
  rectangle: -165,-1560 -135,-1540
  rectangle: -235,1240 -165,1260
  rectangle: -265,1240 -235,1260
  rectangle: -165,1240 -135,1260
  rectangle: -265,1040 -235,1060
  rectangle: -235,1040 -165,1060
  rectangle: -165,1040 -135,1060
  rectangle: -235,-1260 -165,-1240
  rectangle: -235,-1060 -165,-1040
  rectangle: -135,-1160 -65,-1140
  rectangle: -135,1140 -65,1160
  rectangle: -235,940 -165,960
  rectangle: -235,740 -165,760
  rectangle: -135,840 -65,860
  rectangle: -235,-960 -165,-940
  rectangle: -135,-860 -65,-840
  rectangle: -235,-760 -165,-740
  rectangle: -235,640 -165,660
  rectangle: -135,540 -65,560
  rectangle: -235,440 -165,460
  rectangle: -235,-660 -165,-640
  rectangle: -135,-560 -65,-540
  rectangle: -235,-460 -165,-440
  lines w10: -50,-1650 -100,-1650 -100,-1850 113,-1850 ; -50,-1650 50,-1650 113,-1713 113,-1850 ; -50,-1650 -50,1650 ; -50,1650 -100,1650 -100,1850 113,1850 ; -50,1650 63,1650 113,1700 113,1850 ; 113,-1850 175,-1850 175,-1750 400,-1750 400,1750 175,1750 175,1850 113,1850
  text "1" at 0,1550 h77.5
  text "32" at 0,-1600 h77.5
  text "c" at -325,1625 h77.5
  text "b" at -250,1625 h77.5
  text "a" at -165,1625 h77.5
  text "DIN 41612 STV-M 24/8-M-abc" at 300,300 h77.5
Mechanical 1:
  lines w0: 110,-1969 110,1969
Mechanical 16:
  rectangle: -135,1540 -65,1560
  rectangle: -310,1540 -265,1560
  rectangle: -310,1340 -265,1360
  rectangle: -135,1340 -65,1360
  rectangle: -135,1240 -65,1260
  rectangle: -310,1240 -265,1260
  rectangle: -135,1040 -65,1060
  rectangle: -310,1040 -265,1060
  rectangle: -310,940 -265,960
  rectangle: -135,940 -65,960
  rectangle: -135,740 -65,760
  rectangle: -310,740 -265,760
  rectangle: -135,640 -65,660
  rectangle: -310,640 -265,660
  rectangle: -135,440 -65,460
  rectangle: -135,340 -65,360
  rectangle: -310,440 -265,460
  rectangle: -310,340 -265,360
  rectangle: -310,240 -265,260
  rectangle: -135,240 -65,260
  rectangle: -135,140 -65,160
  rectangle: -310,140 -265,160
  rectangle: -310,40 -265,60
  rectangle: -135,40 -65,60
  rectangle: -135,-60 -65,-40
  rectangle: -310,-60 -265,-40
  rectangle: -135,-160 -65,-140
  rectangle: -310,-160 -265,-140
  rectangle: -135,-260 -65,-240
  rectangle: -310,-260 -265,-240
  rectangle: -310,-360 -265,-340
  rectangle: -135,-360 -65,-340
  rectangle: -135,-460 -65,-440
  rectangle: -310,-460 -265,-440
  rectangle: -135,-660 -65,-640
  rectangle: -310,-660 -265,-640
  rectangle: -135,-760 -65,-740
  rectangle: -310,-760 -265,-740
  rectangle: -135,-960 -65,-940
  rectangle: -310,-960 -265,-940
  rectangle: -135,-1060 -65,-1040
  rectangle: -310,-1060 -265,-1040
  rectangle: -310,-1260 -265,-1240
  rectangle: -135,-1260 -65,-1240
  rectangle: -135,-1360 -65,-1340
  rectangle: -310,-1360 -265,-1340
  rectangle: -135,-1560 -65,-1540
  rectangle: -310,-1560 -265,-1540
  rectangle: -235,340 -165,360
  rectangle: -235,240 -165,260
  rectangle: -235,140 -165,160
  rectangle: -235,40 -165,60
  rectangle: -235,-60 -165,-40
  rectangle: -235,-160 -165,-140
  rectangle: -235,-260 -165,-240
  rectangle: -235,-360 -165,-340
  rectangle: -210,1140 -165,1160
  rectangle: -210,1440 -165,1460
  rectangle: -210,-1160 -165,-1140
  rectangle: -210,-1460 -165,-1440
  rectangle: -210,840 -165,860
  rectangle: -210,-860 -165,-840
  rectangle: -210,540 -165,560
  rectangle: -210,-560 -165,-540
Via Holes:
  circle w70: c0,1750 r90
  circle w70: c0,-1750 r90

## M24-8M [mil]
pads (66):
  round 110.24 hole 110.24: 1(0,-1750) 1(0,1750)
  oct 60x60 hole 40: A1(-100,1550) A3(-100,1350) A4(-100,1250) A6(-100,1050) A7(-100,950) A9(-100,750) A10(-100,650) A12(-100,450) A13(-100,350) A14(-100,250) A15(-100,150) A16(-100,50) A17(-100,-50) A18(-100,-150) A19(-100,-250) A20(-100,-350) A21(-100,-450) A23(-100,-650) A24(-100,-750) A26(-100,-950) A27(-100,-1050) A29(-100,-1250) A30(-100,-1350) A32(-100,-1550) B2(-200,1450) B5(-200,1150) B8(-200,850) B11(-200,550) B13(-200,350) B14(-200,250) B15(-200,150) B16(-200,50) B17(-200,-50) B18(-200,-150) B19(-200,-250) B20(-200,-350) B22(-200,-550) B25(-200,-850) B28(-200,-1150) B31(-200,-1450) C1(-300,1550) C3(-300,1350) C4(-300,1250) C6(-300,1050) C7(-300,950) C9(-300,750) C10(-300,650) C12(-300,450) C13(-300,350) C14(-300,250) C15(-300,150) C16(-300,50) C17(-300,-50) C18(-300,-150) C19(-300,-250) C20(-300,-350) C21(-300,-450) C23(-300,-650) C24(-300,-750) C26(-300,-950) C27(-300,-1050) C29(-300,-1250) C30(-300,-1350) C32(-300,-1550)
Bottom Layer keep-out:
  circle w70: c0,1750 r90
  circle w70: c0,-1750 r90
Top Overlay:
  drawing of 184 lines, arcs and shapes, not listed
  text "1" at 0,1550 h77.5
  text "32" at 0,-1600 h77.5
  text "DIN 41612-M 24+8" at 300,300 h77.5
  text "c" at -325,1625 h77.5
  text "b" at -250,1625 h77.5
  text "a" at -165,1625 h77.5
Mechanical 1:
  lines w0: 110,-1969 110,1969
Mechanical 16:
  rectangle: -135,1540 -65,1560
  rectangle: -310,1540 -265,1560
  rectangle: -310,1340 -265,1360
  rectangle: -135,1340 -65,1360
  rectangle: -135,1240 -65,1260
  rectangle: -310,1240 -265,1260
  rectangle: -135,1040 -65,1060
  rectangle: -310,1040 -265,1060
  rectangle: -310,940 -265,960
  rectangle: -135,940 -65,960
  rectangle: -135,740 -65,760
  rectangle: -310,740 -265,760
  rectangle: -135,640 -65,660
  rectangle: -310,640 -265,660
  rectangle: -135,440 -65,460
  rectangle: -135,340 -65,360
  rectangle: -310,440 -265,460
  rectangle: -310,340 -265,360
  rectangle: -310,240 -265,260
  rectangle: -135,240 -65,260
  rectangle: -135,140 -65,160
  rectangle: -310,140 -265,160
  rectangle: -310,40 -265,60
  rectangle: -135,40 -65,60
  rectangle: -135,-60 -65,-40
  rectangle: -310,-60 -265,-40
  rectangle: -135,-160 -65,-140
  rectangle: -310,-160 -265,-140
  rectangle: -135,-260 -65,-240
  rectangle: -310,-260 -265,-240
  rectangle: -310,-360 -265,-340
  rectangle: -135,-360 -65,-340
  rectangle: -135,-460 -65,-440
  rectangle: -310,-460 -265,-440
  rectangle: -135,-660 -65,-640
  rectangle: -310,-660 -265,-640
  rectangle: -135,-760 -65,-740
  rectangle: -310,-760 -265,-740
  rectangle: -135,-960 -65,-940
  rectangle: -310,-960 -265,-940
  rectangle: -135,-1060 -65,-1040
  rectangle: -310,-1060 -265,-1040
  rectangle: -310,-1260 -265,-1240
  rectangle: -135,-1260 -65,-1240
  rectangle: -135,-1360 -65,-1340
  rectangle: -310,-1360 -265,-1340
  rectangle: -135,-1560 -65,-1540
  rectangle: -310,-1560 -265,-1540
  rectangle: -235,340 -165,360
  rectangle: -235,240 -165,260
  rectangle: -235,140 -165,160
  rectangle: -235,40 -165,60
  rectangle: -235,-60 -165,-40
  rectangle: -235,-160 -165,-140
  rectangle: -235,-260 -165,-240
  rectangle: -235,-360 -165,-340
  rectangle: -210,1140 -165,1160
  rectangle: -210,1440 -165,1460
  rectangle: -210,-1160 -165,-1140
  rectangle: -210,-1460 -165,-1440
  rectangle: -210,840 -165,860
  rectangle: -210,-860 -165,-840
  rectangle: -210,540 -165,560
  rectangle: -210,-560 -165,-540
Via Holes:
  circle w70: c0,1750 r90
  circle w70: c0,-1750 r90

## M42-6A [mil]
pads (68):
  round 110.24 hole 110.24: 1(0,-1750) 1(0,1750)
  oct 60x60 hole 40: A1(-100,1550) A3(-100,1350) A4(-100,1250) A6(-100,1050) A7(-100,950) A9(-100,750) A10(-100,650) A11(-100,550) A12(-100,450) A13(-100,350) A14(-100,250) A15(-100,150) A16(-100,50) A17(-100,-50) A18(-100,-150) A19(-100,-250) A20(-100,-350) A21(-100,-450) A22(-100,-550) A23(-100,-650) A24(-100,-750) A26(-100,-950) A27(-100,-1050) A29(-100,-1250) A30(-100,-1350) A32(-100,-1550) B10(-200,650) B11(-200,550) B12(-200,450) B13(-200,350) B14(-200,250) B15(-200,150) B16(-200,50) B17(-200,-50) B18(-200,-150) B19(-200,-250) B20(-200,-350) B21(-200,-450) B22(-200,-550) B23(-200,-650) C1(-300,1550) C3(-300,1350) C4(-300,1250) C6(-300,1050) C7(-300,950) C9(-300,750) C10(-300,650) C11(-300,550) C12(-300,450) C13(-300,350) C14(-300,250) C15(-300,150) C16(-300,50) C17(-300,-50) C18(-300,-150) C19(-300,-250) C20(-300,-350) C21(-300,-450) C22(-300,-550) C23(-300,-650) C24(-300,-750) C26(-300,-950) C27(-300,-1050) C29(-300,-1250) C30(-300,-1350) C32(-300,-1550)
Bottom Layer keep-out:
  circle w70: c0,1750 r90
  circle w70: c0,-1750 r90
Top Overlay:
  circle w10: c0,1750 r50
  circle w10: c0,-1750 r50
  rectangle: -65,1540 -50,1560
  rectangle: -65,1340 -50,1360
  rectangle: -65,1240 -50,1260
  rectangle: -65,1040 -50,1060
  rectangle: -65,940 -50,960
  rectangle: -65,740 -50,760
  rectangle: -65,640 -50,660
  rectangle: -65,540 -50,560
  rectangle: -65,440 -50,460
  rectangle: -65,340 -50,360
  rectangle: -65,240 -50,260
  rectangle: -65,140 -50,160
  rectangle: -65,40 -50,60
  rectangle: -65,-60 -50,-40
  rectangle: -65,-160 -50,-140
  rectangle: -65,-260 -50,-240
  rectangle: -65,-360 -50,-340
  rectangle: -65,-460 -50,-440
  rectangle: -65,-560 -50,-540
  rectangle: -65,-660 -50,-640
  rectangle: -65,-760 -50,-740
  rectangle: -65,-960 -50,-940
  rectangle: -65,-1060 -50,-1040
  rectangle: -65,-1260 -50,-1240
  rectangle: -65,-1360 -50,-1340
  rectangle: -65,-1560 -50,-1540
  rectangle: -235,1540 -165,1560
  rectangle: -165,1540 -135,1560
  rectangle: -265,1540 -235,1560
  rectangle: -165,1340 -135,1360
  rectangle: -235,1340 -165,1360
  rectangle: -265,1340 -235,1360
  rectangle: -165,940 -135,960
  rectangle: -265,940 -235,960
  rectangle: -165,740 -135,760
  rectangle: -265,740 -235,760
  rectangle: -265,640 -235,660
  rectangle: -165,640 -135,660
  rectangle: -165,540 -135,560
  rectangle: -265,540 -235,560
  rectangle: -265,440 -235,460
  rectangle: -165,440 -135,460
  rectangle: -165,340 -135,360
  rectangle: -265,340 -235,360
  rectangle: -265,240 -235,260
  rectangle: -165,240 -135,260
  rectangle: -165,140 -135,160
  rectangle: -265,140 -235,160
  rectangle: -265,40 -235,60
  rectangle: -165,40 -135,60
  rectangle: -165,-60 -135,-40
  rectangle: -265,-60 -235,-40
  rectangle: -265,-160 -235,-140
  rectangle: -165,-160 -135,-140
  rectangle: -165,-260 -135,-240
  rectangle: -265,-260 -235,-240
  rectangle: -265,-360 -235,-340
  rectangle: -165,-360 -135,-340
  rectangle: -165,-460 -135,-440
  rectangle: -265,-460 -235,-440
  rectangle: -265,-560 -235,-540
  rectangle: -165,-560 -135,-540
  rectangle: -165,-660 -135,-640
  rectangle: -265,-660 -235,-640
  rectangle: -265,-760 -235,-740
  rectangle: -165,-760 -135,-740
  rectangle: -265,-960 -235,-940
  rectangle: -165,-960 -135,-940
  rectangle: -165,-1060 -135,-1040
  rectangle: -265,-1060 -235,-1040
  rectangle: -165,-1260 -135,-1240
  rectangle: -265,-1260 -235,-1240
  rectangle: -265,-1360 -235,-1340
  rectangle: -235,-1360 -165,-1340
  rectangle: -165,-1360 -135,-1340
  rectangle: -265,-1560 -235,-1540
  rectangle: -235,-1560 -165,-1540
  rectangle: -165,-1560 -135,-1540
  rectangle: -235,1240 -165,1260
  rectangle: -265,1240 -235,1260
  rectangle: -165,1240 -135,1260
  rectangle: -265,1040 -235,1060
  rectangle: -235,1040 -165,1060
  rectangle: -165,1040 -135,1060
  rectangle: -235,-1260 -165,-1240
  rectangle: -235,-1060 -165,-1040
  rectangle: -235,940 -165,960
  rectangle: -235,740 -165,760
  rectangle: -235,-960 -165,-940
  rectangle: -235,-760 -165,-740
  lines w10: -50,-1650 -100,-1650 -100,-1850 113,-1850 ; -50,-1650 50,-1650 113,-1713 113,-1850 ; -50,-1650 -50,1650 ; -50,1650 -100,1650 -100,1850 113,1850 ; -50,1650 63,1650 113,1700 113,1850 ; 113,-1850 175,-1850 175,-1750 400,-1750 400,1750 175,1750 175,1850 113,1850
  text "C" at -325,1625 h77.5
  text "A" at -165,1625 h77.5
  text "1" at 0,1550 h108.5
  text "B" at -250,1625 h77.5
  text "32" at 0,-1600 h77.5
  text "DIN 41612 STV-M 42/6A-M-abc" at 300,300 h77.5
Mechanical 1:
  lines w0: 110,-1969 110,1969
Mechanical 16:
  rectangle: -135,1540 -65,1560
  rectangle: -310,1540 -265,1560
  rectangle: -310,1340 -265,1360
  rectangle: -135,1340 -65,1360
  rectangle: -135,1240 -65,1260
  rectangle: -310,1240 -265,1260
  rectangle: -135,1040 -65,1060
  rectangle: -310,1040 -265,1060
  rectangle: -310,940 -265,960
  rectangle: -135,940 -65,960
  rectangle: -135,740 -65,760
  rectangle: -310,740 -265,760
  rectangle: -135,640 -65,660
  rectangle: -310,640 -265,660
  rectangle: -310,540 -265,560
  rectangle: -135,540 -65,560
  rectangle: -135,440 -65,460
  rectangle: -135,340 -65,360
  rectangle: -310,440 -265,460
  rectangle: -310,340 -265,360
  rectangle: -310,240 -265,260
  rectangle: -135,240 -65,260
  rectangle: -135,140 -65,160
  rectangle: -310,140 -265,160
  rectangle: -310,40 -265,60
  rectangle: -135,40 -65,60
  rectangle: -135,-60 -65,-40
  rectangle: -310,-60 -265,-40
  rectangle: -135,-160 -65,-140
  rectangle: -310,-160 -265,-140
  rectangle: -135,-260 -65,-240
  rectangle: -310,-260 -265,-240
  rectangle: -310,-360 -265,-340
  rectangle: -135,-360 -65,-340
  rectangle: -135,-460 -65,-440
  rectangle: -310,-460 -265,-440
  rectangle: -135,-660 -65,-640
  rectangle: -310,-660 -265,-640
  rectangle: -135,-560 -65,-540
  rectangle: -310,-560 -265,-540
  rectangle: -135,-760 -65,-740
  rectangle: -310,-760 -265,-740
  rectangle: -135,-960 -65,-940
  rectangle: -310,-960 -265,-940
  rectangle: -135,-1060 -65,-1040
  rectangle: -310,-1060 -265,-1040
  rectangle: -310,-1260 -265,-1240
  rectangle: -135,-1260 -65,-1240
  rectangle: -135,-1360 -65,-1340
  rectangle: -310,-1360 -265,-1340
  rectangle: -135,-1560 -65,-1540
  rectangle: -310,-1560 -265,-1540
  rectangle: -235,640 -165,660
  rectangle: -235,540 -165,560
  rectangle: -235,440 -165,460
  rectangle: -235,340 -165,360
  rectangle: -235,240 -165,260
  rectangle: -235,140 -165,160
  rectangle: -235,40 -165,60
  rectangle: -235,-60 -165,-40
  rectangle: -235,-160 -165,-140
  rectangle: -235,-260 -165,-240
  rectangle: -235,-360 -165,-340
  rectangle: -235,-460 -165,-440
  rectangle: -235,-560 -165,-540
  rectangle: -235,-660 -165,-640
Via Holes:
  circle w70: c0,1750 r90
  circle w70: c0,-1750 r90

## M42-6A1 [mil]
pads (50):
  round 110.24 hole 110.24: 1(0,-1750) 1(0,1750)
  oct 60x60 hole 40: A10(-100,650) A11(-100,550) A12(-100,450) A13(-100,350) A14(-100,250) A15(-100,150) A16(-100,50) A17(-100,-50) A18(-100,-150) A19(-100,-250) A20(-100,-350) A21(-100,-450) A22(-100,-550) A23(-100,-650) B2(-200,1450) B5(-200,1150) B8(-200,850) B10(-200,650) B11(-200,550) B12(-200,450) B13(-200,350) B14(-200,250) B15(-200,150) B16(-200,50) B17(-200,-50) B18(-200,-150) B19(-200,-250) B20(-200,-350) B21(-200,-450) B22(-200,-550) B23(-200,-650) B25(-200,-850) B28(-200,-1150) B31(-200,-1450) C10(-300,650) C11(-300,550) C12(-300,450) C13(-300,350) C14(-300,250) C15(-300,150) C16(-300,50) C17(-300,-50) C18(-300,-150) C19(-300,-250) C20(-300,-350) C21(-300,-450) C22(-300,-550) C23(-300,-650)
Bottom Layer keep-out:
  circle w70: c0,1750 r90
  circle w70: c0,-1750 r90
Top Overlay:
  circle w10: c0,1750 r50
  circle w10: c0,-1750 r50
  rectangle: -65,1440 -50,1460
  rectangle: -135,1440 -65,1460
  rectangle: -65,1140 -50,1160
  rectangle: -65,840 -50,860
  rectangle: -65,640 -50,660
  rectangle: -65,540 -50,560
  rectangle: -65,440 -50,460
  rectangle: -65,340 -50,360
  rectangle: -65,240 -50,260
  rectangle: -65,140 -50,160
  rectangle: -65,40 -50,60
  rectangle: -65,-60 -50,-40
  rectangle: -65,-160 -50,-140
  rectangle: -65,-260 -50,-240
  rectangle: -65,-360 -50,-340
  rectangle: -65,-460 -50,-440
  rectangle: -65,-560 -50,-540
  rectangle: -65,-660 -50,-640
  rectangle: -65,-860 -50,-840
  rectangle: -65,-1160 -50,-1140
  rectangle: -135,-1460 -65,-1440
  rectangle: -65,-1460 -50,-1440
  rectangle: -165,1440 -135,1460
  rectangle: -165,1140 -135,1160
  rectangle: -165,840 -135,860
  rectangle: -265,640 -235,660
  rectangle: -165,640 -135,660
  rectangle: -165,540 -135,560
  rectangle: -265,540 -235,560
  rectangle: -265,440 -235,460
  rectangle: -165,440 -135,460
  rectangle: -165,340 -135,360
  rectangle: -265,340 -235,360
  rectangle: -265,240 -235,260
  rectangle: -165,240 -135,260
  rectangle: -165,140 -135,160
  rectangle: -265,140 -235,160
  rectangle: -265,40 -235,60
  rectangle: -165,40 -135,60
  rectangle: -165,-60 -135,-40
  rectangle: -265,-60 -235,-40
  rectangle: -265,-160 -235,-140
  rectangle: -165,-160 -135,-140
  rectangle: -165,-260 -135,-240
  rectangle: -265,-260 -235,-240
  rectangle: -265,-360 -235,-340
  rectangle: -165,-360 -135,-340
  rectangle: -165,-460 -135,-440
  rectangle: -265,-460 -235,-440
  rectangle: -265,-560 -235,-540
  rectangle: -165,-560 -135,-540
  rectangle: -165,-660 -135,-640
  rectangle: -265,-660 -235,-640
  rectangle: -165,-860 -135,-840
  rectangle: -165,-1160 -135,-1140
  rectangle: -165,-1460 -135,-1440
  rectangle: -135,-1160 -65,-1140
  rectangle: -135,1140 -65,1160
  rectangle: -135,840 -65,860
  rectangle: -135,-860 -65,-840
  lines w10: -50,-1650 -100,-1650 -100,-1850 113,-1850 ; -50,-1650 50,-1650 113,-1713 113,-1850 ; -50,-1650 -50,1650 ; -50,1650 -100,1650 -100,1850 113,1850 ; -50,1650 63,1650 113,1700 113,1850 ; 113,-1850 175,-1850 175,-1750 400,-1750 400,1750 175,1750 175,1850 113,1850
  text "C" at -325,1625 h77.5
  text "A" at -165,1625 h77.5
  text "1" at 0,1550 h108.5
  text "B" at -250,1625 h77.5
  text "32" at 0,-1600 h108.5
  text "DIN 41612 STV-M 42/6A1-M-abc" at 300,300 h77.5
Mechanical 1:
  lines w0: 110,-1969 110,1969
Mechanical 16:
  rectangle: -135,640 -65,660
  rectangle: -310,640 -265,660
  rectangle: -310,540 -265,560
  rectangle: -135,540 -65,560
  rectangle: -135,440 -65,460
  rectangle: -135,340 -65,360
  rectangle: -310,440 -265,460
  rectangle: -310,340 -265,360
  rectangle: -310,240 -265,260
  rectangle: -135,240 -65,260
  rectangle: -135,140 -65,160
  rectangle: -310,140 -265,160
  rectangle: -310,40 -265,60
  rectangle: -135,40 -65,60
  rectangle: -135,-60 -65,-40
  rectangle: -310,-60 -265,-40
  rectangle: -135,-160 -65,-140
  rectangle: -310,-160 -265,-140
  rectangle: -135,-260 -65,-240
  rectangle: -310,-260 -265,-240
  rectangle: -310,-360 -265,-340
  rectangle: -135,-360 -65,-340
  rectangle: -135,-460 -65,-440
  rectangle: -310,-460 -265,-440
  rectangle: -135,-660 -65,-640
  rectangle: -310,-660 -265,-640
  rectangle: -135,-560 -65,-540
  rectangle: -310,-560 -265,-540
  rectangle: -235,640 -165,660
  rectangle: -235,540 -165,560
  rectangle: -235,440 -165,460
  rectangle: -235,340 -165,360
  rectangle: -235,240 -165,260
  rectangle: -235,140 -165,160
  rectangle: -235,40 -165,60
  rectangle: -235,-60 -165,-40
  rectangle: -235,-160 -165,-140
  rectangle: -235,-260 -165,-240
  rectangle: -235,-360 -165,-340
  rectangle: -235,-460 -165,-440
  rectangle: -235,-560 -165,-540
  rectangle: -235,-660 -165,-640
  rectangle: -210,1140 -165,1160
  rectangle: -210,1440 -165,1460
  rectangle: -210,-1160 -165,-1140
  rectangle: -210,-1460 -165,-1440
  rectangle: -210,840 -165,860
  rectangle: -210,-860 -165,-840
Via Holes:
  circle w70: c0,1750 r90
  circle w70: c0,-1750 r90

## M42-6C [mil]
pads (74):
  round 110.24 hole 110.24: 1(0,-1750) 1(0,1750)
  oct 60x60 hole 40: A1(-100,1550) A3(-100,1350) A4(-100,1250) A6(-100,1050) A7(-100,950) A9(-100,750) A10(-100,650) A11(-100,550) A12(-100,450) A13(-100,350) A14(-100,250) A15(-100,150) A16(-100,50) A17(-100,-50) A18(-100,-150) A19(-100,-250) A20(-100,-350) A21(-100,-450) A22(-100,-550) A23(-100,-650) A24(-100,-750) A26(-100,-950) A27(-100,-1050) A29(-100,-1250) A30(-100,-1350) A32(-100,-1550) B2(-200,1450) B5(-200,1150) B8(-200,850) B10(-200,650) B11(-200,550) B12(-200,450) B13(-200,350) B14(-200,250) B15(-200,150) B16(-200,50) B17(-200,-50) B18(-200,-150) B19(-200,-250) B20(-200,-350) B21(-200,-450) B22(-200,-550) B23(-200,-650) B25(-200,-850) B28(-200,-1150) B31(-200,-1450) C1(-300,1550) C3(-300,1350) C4(-300,1250) C6(-300,1050) C7(-300,950) C9(-300,750) C10(-300,650) C11(-300,550) C12(-300,450) C13(-300,350) C14(-300,250) C15(-300,150) C16(-300,50) C17(-300,-50) C18(-300,-150) C19(-300,-250) C20(-300,-350) C21(-300,-450) C22(-300,-550) C23(-300,-650) C24(-300,-750) C26(-300,-950) C27(-300,-1050) C29(-300,-1250) C30(-300,-1350) C32(-300,-1550)
Bottom Layer keep-out:
  circle w70: c0,1750 r90
  circle w70: c0,-1750 r90
Top Overlay:
  circle w10: c0,1750 r50
  circle w10: c0,-1750 r50
  rectangle: -65,1540 -50,1560
  rectangle: -65,1440 -50,1460
  rectangle: -135,1440 -65,1460
  rectangle: -65,1340 -50,1360
  rectangle: -65,1240 -50,1260
  rectangle: -65,1140 -50,1160
  rectangle: -65,1040 -50,1060
  rectangle: -65,940 -50,960
  rectangle: -65,840 -50,860
  rectangle: -65,740 -50,760
  rectangle: -65,640 -50,660
  rectangle: -65,540 -50,560
  rectangle: -65,440 -50,460
  rectangle: -65,340 -50,360
  rectangle: -65,240 -50,260
  rectangle: -65,140 -50,160
  rectangle: -65,40 -50,60
  rectangle: -65,-60 -50,-40
  rectangle: -65,-160 -50,-140
  rectangle: -65,-260 -50,-240
  rectangle: -65,-360 -50,-340
  rectangle: -65,-460 -50,-440
  rectangle: -65,-560 -50,-540
  rectangle: -65,-660 -50,-640
  rectangle: -65,-760 -50,-740
  rectangle: -65,-860 -50,-840
  rectangle: -65,-960 -50,-940
  rectangle: -65,-1060 -50,-1040
  rectangle: -65,-1160 -50,-1140
  rectangle: -65,-1260 -50,-1240
  rectangle: -65,-1360 -50,-1340
  rectangle: -135,-1460 -65,-1440
  rectangle: -65,-1460 -50,-1440
  rectangle: -65,-1560 -50,-1540
  rectangle: -235,1540 -165,1560
  rectangle: -165,1540 -135,1560
  rectangle: -265,1540 -235,1560
  rectangle: -165,1440 -135,1460
  rectangle: -165,1340 -135,1360
  rectangle: -235,1340 -165,1360
  rectangle: -265,1340 -235,1360
  rectangle: -165,1140 -135,1160
  rectangle: -165,940 -135,960
  rectangle: -265,940 -235,960
  rectangle: -165,840 -135,860
  rectangle: -165,740 -135,760
  rectangle: -265,740 -235,760
  rectangle: -265,640 -235,660
  rectangle: -165,640 -135,660
  rectangle: -165,540 -135,560
  rectangle: -265,540 -235,560
  rectangle: -265,440 -235,460
  rectangle: -165,440 -135,460
  rectangle: -165,340 -135,360
  rectangle: -265,340 -235,360
  rectangle: -265,240 -235,260
  rectangle: -165,240 -135,260
  rectangle: -165,140 -135,160
  rectangle: -265,140 -235,160
  rectangle: -265,40 -235,60
  rectangle: -165,40 -135,60
  rectangle: -165,-60 -135,-40
  rectangle: -265,-60 -235,-40
  rectangle: -265,-160 -235,-140
  rectangle: -165,-160 -135,-140
  rectangle: -165,-260 -135,-240
  rectangle: -265,-260 -235,-240
  rectangle: -265,-360 -235,-340
  rectangle: -165,-360 -135,-340
  rectangle: -165,-460 -135,-440
  rectangle: -265,-460 -235,-440
  rectangle: -265,-560 -235,-540
  rectangle: -165,-560 -135,-540
  rectangle: -165,-660 -135,-640
  rectangle: -265,-660 -235,-640
  rectangle: -265,-760 -235,-740
  rectangle: -165,-760 -135,-740
  rectangle: -165,-860 -135,-840
  rectangle: -265,-960 -235,-940
  rectangle: -165,-960 -135,-940
  rectangle: -165,-1060 -135,-1040
  rectangle: -265,-1060 -235,-1040
  rectangle: -165,-1160 -135,-1140
  rectangle: -165,-1260 -135,-1240
  rectangle: -265,-1260 -235,-1240
  rectangle: -265,-1360 -235,-1340
  rectangle: -235,-1360 -165,-1340
  rectangle: -165,-1360 -135,-1340
  rectangle: -165,-1460 -135,-1440
  rectangle: -265,-1560 -235,-1540
  rectangle: -235,-1560 -165,-1540
  rectangle: -165,-1560 -135,-1540
  rectangle: -235,1240 -165,1260
  rectangle: -265,1240 -235,1260
  rectangle: -165,1240 -135,1260
  rectangle: -265,1040 -235,1060
  rectangle: -235,1040 -165,1060
  rectangle: -165,1040 -135,1060
  rectangle: -235,-1260 -165,-1240
  rectangle: -235,-1060 -165,-1040
  rectangle: -135,-1160 -65,-1140
  rectangle: -135,1140 -65,1160
  rectangle: -235,940 -165,960
  rectangle: -235,740 -165,760
  rectangle: -135,840 -65,860
  rectangle: -235,-960 -165,-940
  rectangle: -135,-860 -65,-840
  rectangle: -235,-760 -165,-740
  lines w10: -50,-1650 -100,-1650 -100,-1850 113,-1850 ; -50,-1650 50,-1650 113,-1713 113,-1850 ; -50,-1650 -50,1650 ; -50,1650 -100,1650 -100,1850 113,1850 ; -50,1650 63,1650 113,1700 113,1850 ; 113,-1850 175,-1850 175,-1750 400,-1750 400,1750 175,1750 175,1850 113,1850
  text "C" at -325,1625 h77.5
  text "A" at -165,1625 h77.5
  text "1" at 0,1550 h108.5
  text "B" at -250,1625 h77.5
  text "32" at 0,-1600 h108.5
  text "DIN 41612 STV-M 42/6C-M-abc" at 300,300 h77.5
Mechanical 1:
  lines w0: 110,-1969 110,1969
Mechanical 16:
  rectangle: -135,1540 -65,1560
  rectangle: -310,1540 -265,1560
  rectangle: -310,1340 -265,1360
  rectangle: -135,1340 -65,1360
  rectangle: -135,1240 -65,1260
  rectangle: -310,1240 -265,1260
  rectangle: -135,1040 -65,1060
  rectangle: -310,1040 -265,1060
  rectangle: -310,940 -265,960
  rectangle: -135,940 -65,960
  rectangle: -135,740 -65,760
  rectangle: -310,740 -265,760
  rectangle: -135,640 -65,660
  rectangle: -310,640 -265,660
  rectangle: -310,540 -265,560
  rectangle: -135,540 -65,560
  rectangle: -135,440 -65,460
  rectangle: -135,340 -65,360
  rectangle: -310,440 -265,460
  rectangle: -310,340 -265,360
  rectangle: -310,240 -265,260
  rectangle: -135,240 -65,260
  rectangle: -135,140 -65,160
  rectangle: -310,140 -265,160
  rectangle: -310,40 -265,60
  rectangle: -135,40 -65,60
  rectangle: -135,-60 -65,-40
  rectangle: -310,-60 -265,-40
  rectangle: -135,-160 -65,-140
  rectangle: -310,-160 -265,-140
  rectangle: -135,-260 -65,-240
  rectangle: -310,-260 -265,-240
  rectangle: -310,-360 -265,-340
  rectangle: -135,-360 -65,-340
  rectangle: -135,-460 -65,-440
  rectangle: -310,-460 -265,-440
  rectangle: -135,-660 -65,-640
  rectangle: -310,-660 -265,-640
  rectangle: -135,-560 -65,-540
  rectangle: -310,-560 -265,-540
  rectangle: -135,-760 -65,-740
  rectangle: -310,-760 -265,-740
  rectangle: -135,-960 -65,-940
  rectangle: -310,-960 -265,-940
  rectangle: -135,-1060 -65,-1040
  rectangle: -310,-1060 -265,-1040
  rectangle: -310,-1260 -265,-1240
  rectangle: -135,-1260 -65,-1240
  rectangle: -135,-1360 -65,-1340
  rectangle: -310,-1360 -265,-1340
  rectangle: -135,-1560 -65,-1540
  rectangle: -310,-1560 -265,-1540
  rectangle: -235,640 -165,660
  rectangle: -235,540 -165,560
  rectangle: -235,440 -165,460
  rectangle: -235,340 -165,360
  rectangle: -235,240 -165,260
  rectangle: -235,140 -165,160
  rectangle: -235,40 -165,60
  rectangle: -235,-60 -165,-40
  rectangle: -235,-160 -165,-140
  rectangle: -235,-260 -165,-240
  rectangle: -235,-360 -165,-340
  rectangle: -235,-460 -165,-440
  rectangle: -235,-560 -165,-540
  rectangle: -235,-660 -165,-640
  rectangle: -210,1140 -165,1160
  rectangle: -210,1440 -165,1460
  rectangle: -210,-1160 -165,-1140
  rectangle: -210,-1460 -165,-1440
  rectangle: -210,840 -165,860
  rectangle: -210,-860 -165,-840
Via Holes:
  circle w70: c0,1750 r90
  circle w70: c0,-1750 r90

## M42-6M [mil]
pads (74):
  round 110.24 hole 110.24: 1(0,-1750) 1(0,1750)
  oct 60x60 hole 40: A1(-100,1550) A3(-100,1350) A4(-100,1250) A6(-100,1050) A7(-100,950) A9(-100,750) A10(-100,650) A11(-100,550) A12(-100,450) A13(-100,350) A14(-100,250) A15(-100,150) A16(-100,50) A17(-100,-50) A18(-100,-150) A19(-100,-250) A20(-100,-350) A21(-100,-450) A22(-100,-550) A23(-100,-650) A24(-100,-750) A26(-100,-950) A27(-100,-1050) A29(-100,-1250) A30(-100,-1350) A32(-100,-1550) B2(-200,1450) B5(-200,1150) B8(-200,850) B10(-200,650) B11(-200,550) B12(-200,450) B13(-200,350) B14(-200,250) B15(-200,150) B16(-200,50) B17(-200,-50) B18(-200,-150) B19(-200,-250) B20(-200,-350) B21(-200,-450) B22(-200,-550) B23(-200,-650) B25(-200,-850) B28(-200,-1150) B31(-200,-1450) C1(-300,1550) C3(-300,1350) C4(-300,1250) C6(-300,1050) C7(-300,950) C9(-300,750) C10(-300,650) C11(-300,550) C12(-300,450) C13(-300,350) C14(-300,250) C15(-300,150) C16(-300,50) C17(-300,-50) C18(-300,-150) C19(-300,-250) C20(-300,-350) C21(-300,-450) C22(-300,-550) C23(-300,-650) C24(-300,-750) C26(-300,-950) C27(-300,-1050) C29(-300,-1250) C30(-300,-1350) C32(-300,-1550)
Bottom Layer keep-out:
  circle w70: c0,1750 r90
  circle w70: c0,-1750 r90
Top Overlay:
  drawing of 180 lines, arcs and shapes, not listed
  text "C" at -325,1625 h77.5
  text "A" at -165,1625 h77.5
  text "1" at 0,1550 h108.5
  text "B" at -250,1625 h77.5
  text "32" at 0,-1600 h108.5
  text "DIN 41612-M 42+6" at 300,300 h77.5
Mechanical 1:
  lines w0: 110,-1969 110,1969
Mechanical 16:
  rectangle: -135,1540 -65,1560
  rectangle: -310,1540 -265,1560
  rectangle: -310,1340 -265,1360
  rectangle: -135,1340 -65,1360
  rectangle: -135,1240 -65,1260
  rectangle: -310,1240 -265,1260
  rectangle: -135,1040 -65,1060
  rectangle: -310,1040 -265,1060
  rectangle: -310,940 -265,960
  rectangle: -135,940 -65,960
  rectangle: -135,740 -65,760
  rectangle: -310,740 -265,760
  rectangle: -135,640 -65,660
  rectangle: -310,640 -265,660
  rectangle: -310,540 -265,560
  rectangle: -135,540 -65,560
  rectangle: -135,440 -65,460
  rectangle: -135,340 -65,360
  rectangle: -310,440 -265,460
  rectangle: -310,340 -265,360
  rectangle: -310,240 -265,260
  rectangle: -135,240 -65,260
  rectangle: -135,140 -65,160
  rectangle: -310,140 -265,160
  rectangle: -310,40 -265,60
  rectangle: -135,40 -65,60
  rectangle: -135,-60 -65,-40
  rectangle: -310,-60 -265,-40
  rectangle: -135,-160 -65,-140
  rectangle: -310,-160 -265,-140
  rectangle: -135,-260 -65,-240
  rectangle: -310,-260 -265,-240
  rectangle: -310,-360 -265,-340
  rectangle: -135,-360 -65,-340
  rectangle: -135,-460 -65,-440
  rectangle: -310,-460 -265,-440
  rectangle: -135,-660 -65,-640
  rectangle: -310,-660 -265,-640
  rectangle: -135,-560 -65,-540
  rectangle: -310,-560 -265,-540
  rectangle: -135,-760 -65,-740
  rectangle: -310,-760 -265,-740
  rectangle: -135,-960 -65,-940
  rectangle: -310,-960 -265,-940
  rectangle: -135,-1060 -65,-1040
  rectangle: -310,-1060 -265,-1040
  rectangle: -310,-1260 -265,-1240
  rectangle: -135,-1260 -65,-1240
  rectangle: -135,-1360 -65,-1340
  rectangle: -310,-1360 -265,-1340
  rectangle: -135,-1560 -65,-1540
  rectangle: -310,-1560 -265,-1540
  rectangle: -235,640 -165,660
  rectangle: -235,540 -165,560
  rectangle: -235,440 -165,460
  rectangle: -235,340 -165,360
  rectangle: -235,240 -165,260
  rectangle: -235,140 -165,160
  rectangle: -235,40 -165,60
  rectangle: -235,-60 -165,-40
  rectangle: -235,-160 -165,-140
  rectangle: -235,-260 -165,-240
  rectangle: -235,-360 -165,-340
  rectangle: -235,-460 -165,-440
  rectangle: -235,-560 -165,-540
  rectangle: -235,-660 -165,-640
  rectangle: -210,1140 -165,1160
  rectangle: -210,1440 -165,1460
  rectangle: -210,-1160 -165,-1140
  rectangle: -210,-1460 -165,-1440
  rectangle: -210,840 -165,860
  rectangle: -210,-860 -165,-840
Via Holes:
  circle w70: c0,1750 r90
  circle w70: c0,-1750 r90